# Altium integrated library Renesas Microprocessor SuperH.IntLib: 433 symbols (part 36 of 62)
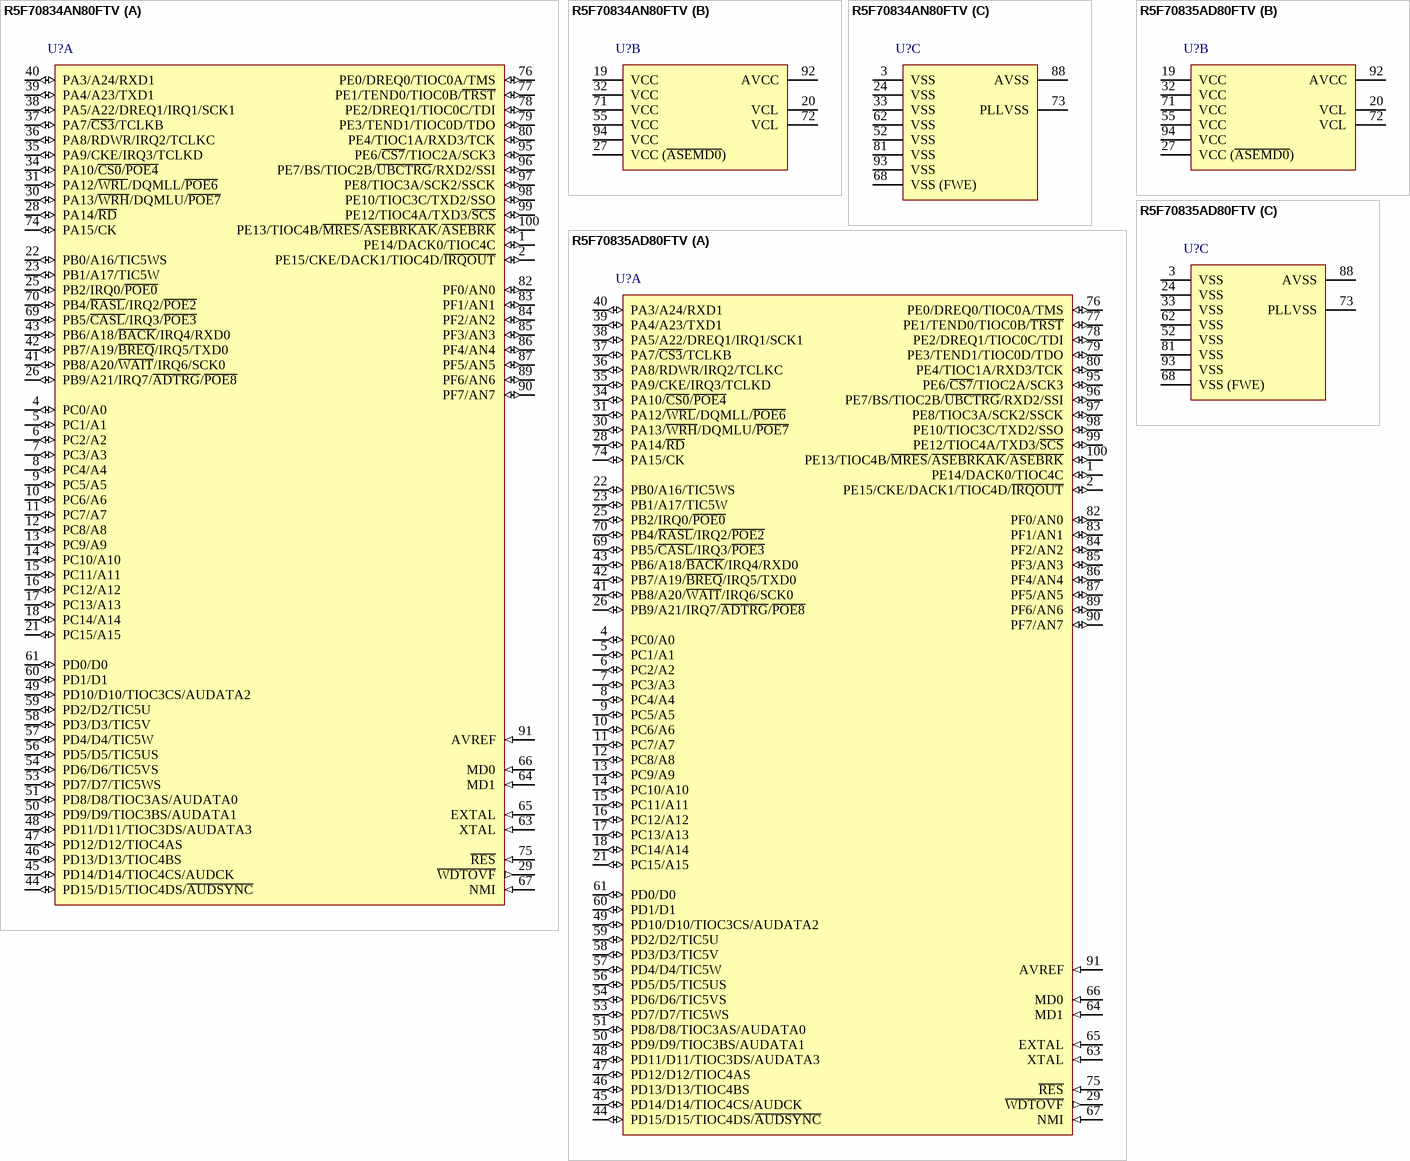
[diagram p403: symbols R5F70834AN80FTV to R5F70835AD80FTV]

## R5F70835AD80FTV
designator U?
32-Bit RISC Microcomputer, SH7080 Series, SH-2 core, 80MHz, 512K ROM, 32K RAM, PTQP0100KA-A (TFP-100BV) Package, -40 to 85°C; Published: 28-Aug-2009; LatestRevisionDate: 15-Feb-2010; LatestRevisionNote: Updated to datasheet revision 4.00 Dec-2009.; DatasheetVersion: Rev.4.00, Dec-2009; PackageVersion: Sep-2005; PackageReference: PTQP0100KA-A; Publisher: Altium Limited; PackageDescription: 100-Pin Plastic Thin Quad Flat Pack, 14 x 14 x 1.0 mm Body, 0.5 mm Pitch; Code_JEITA: P-TQFP100-14x14-0.50; ComponentLink1Description: Manufacturer Link; ComponentLink1URL: http://www.renesas.com/fmwk.jsp?cnt=sh7080_root.jsp&fp=/products/mpumcu/superh_family/sh7080_series/sh7080_group/; ComponentLink2Description: Datasheet; ComponentLink2URL: http://documentation.renesas.com/eng/products/mpumcu/rej09b0181_sh7080.pdf; ComponentLink3Description: Packaging Specification; ComponentLink3URL: http://sg.renesas.com/media/products/common_info/package/pdf/ic/code/ptqp0100ka_a.pdf
footprint PTQP0100KA-A_N (Thin QFP, 100-Leads, Body 14x14mm, Pitch 0.5mm, IPC Medium Density)
footprint PTQP0100KA-A_L (Thin QFP, 100-Leads, Body 14x14mm, Pitch 0.5mm, IPC High Density)
footprint PTQP0100KA-A_M (Thin QFP, 100-Leads, Body 14x14mm, Pitch 0.5mm, IPC Low Density)
part A pins: 1 PE14/DACK0/TIOC4C (io), 2 PE15/CKE/DACK1/TIOC4D/~{IRQOUT} (io), 4 PC0/A0 (io), 5 PC1/A1 (io), 6 PC2/A2 (io), 7 PC3/A3 (io), 8 PC4/A4 (io), 9 PC5/A5 (io), 10 PC6/A6 (io), 11 PC7/A7 (io), 12 PC8/A8 (io), 13 PC9/A9 (io), 14 PC10/A10 (io), 15 PC11/A11 (io), 16 PC12/A12 (io), 17 PC13/A13 (io), 18 PC14/A14 (io), 21 PC15/A15 (io), 22 PB0/A16/TIC5WS (io), 23 PB1/A17/TIC5W (io), 25 PB2/IRQ0/~{POE0} (io), 26 PB9/A21/IRQ7/~{ADTRG}/~{POE8} (io), 28 PA14/~{RD} (io), 29 ~{WDTOVF} (out), 30 PA13/~{WRH}/DQMLU/~{POE7} (io), 31 PA12/~{WRL}/DQMLL/~{POE6} (io), 34 PA10/~{CS0}/~{POE4} (io), 35 PA9/CKE/IRQ3/TCLKD (io), 36 PA8/RDWR/IRQ2/TCLKC (io), 37 PA7/~{CS3}/TCLKB (io), 38 PA5/A22/DREQ1/IRQ1/SCK1 (io), 39 PA4/A23/TXD1 (io), 40 PA3/A24/RXD1 (io), 41 PB8/A20/~{WAIT}/IRQ6/SCK0 (io), 42 PB7/A19/~{BREQ}/IRQ5/TXD0 (io), 43 PB6/A18/~{BACK}/IRQ4/RXD0 (io), 44 PD15/D15/TIOC4DS/~{AUDSYNC} (io), 45 PD14/D14/TIOC4CS/AUDCK (io), 46 PD13/D13/TIOC4BS (io), 47 PD12/D12/TIOC4AS (io), 48 PD11/D11/TIOC3DS/AUDATA3 (io), 49 PD10/D10/TIOC3CS/AUDATA2 (io), 50 PD9/D9/TIOC3BS/AUDATA1 (io), 51 PD8/D8/TIOC3AS/AUDATA0 (io), 53 PD7/D7/TIC5WS (io), 54 PD6/D6/TIC5VS (io), 56 PD5/D5/TIC5US (io), 57 PD4/D4/TIC5W (io), 58 PD3/D3/TIC5V (io), 59 PD2/D2/TIC5U (io), 60 PD1/D1 (io), 61 PD0/D0 (io), 63 XTAL (in), 64 MD1 (in), 65 EXTAL (in), 66 MD0 (in), 67 NMI (in), 69 PB5/~{CASL}/IRQ3/~{POE3} (io), 70 PB4/~{RASL}/IRQ2/~{POE2} (io), 74 PA15/CK (io), 75 ~{RES} (in), 76 PE0/DREQ0/TIOC0A/TMS (io), 77 PE1/TEND0/TIOC0B/~{TRST} (io), 78 PE2/DREQ1/TIOC0C/TDI (io), 79 PE3/TEND1/TIOC0D/TDO (io), 80 PE4/TIOC1A/RXD3/TCK (io), 82 PF0/AN0 (io), 83 PF1/AN1 (io), 84 PF2/AN2 (io), 85 PF3/AN3 (io), 86 PF4/AN4 (io), 87 PF5/AN5 (io), 89 PF6/AN6 (io), 90 PF7/AN7 (io), 91 AVREF (in), 95 PE6/~{CS7}/TIOC2A/SCK3 (io), 96 PE7/BS/TIOC2B/~{UBCTRG}/RXD2/SSI (io), 97 PE8/TIOC3A/SCK2/SSCK (io), 98 PE10/TIOC3C/TXD2/SSO (io), 99 PE12/TIOC4A/TXD3/~{SCS} (io), 100 PE13/TIOC4B/~{MRES}/~{ASEBRKAK}/~{ASEBRK} (io)
part B pins: 19 VCC (power), 20 VCL (power), 27 VCC (~{ASEMD0}) (power), 32 VCC (power), 55 VCC (power), 71 VCC (power), 72 VCL (power), 92 AVCC (power), 94 VCC (power)
part C pins: 3 VSS (power), 24 VSS (power), 33 VSS (power), 52 VSS (power), 62 VSS (power), 68 VSS (FWE) (power), 73 PLLVSS (power), 81 VSS (power), 88 AVSS (power), 93 VSS (power)

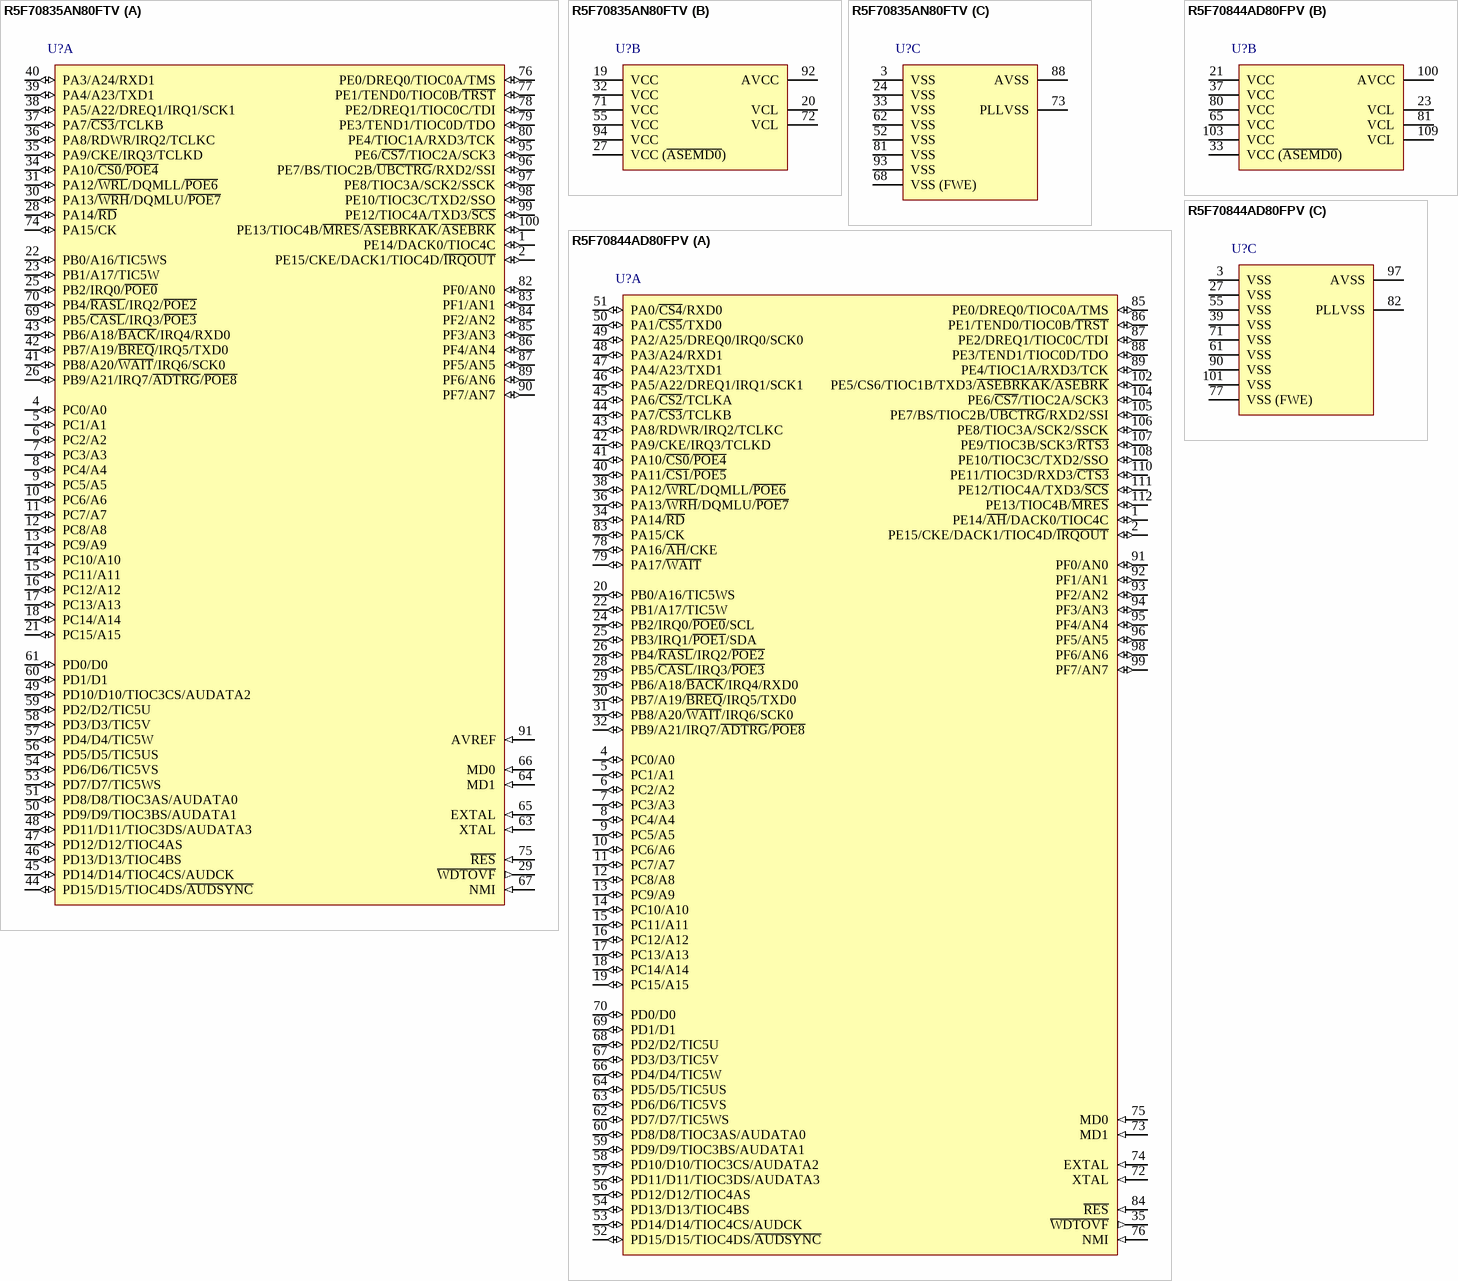
[diagram p131: symbols R5F70835AN80FTV to R5F70844AD80FPV]

## R5F70835AN80FTV
designator U?
32-Bit RISC Microcomputer, SH7080 Series, SH-2 core, 80MHz, 512K ROM, 32K RAM, PTQP0100KA-A (TFP-100BV) Package, -20 to 85°C; Published: 28-Aug-2009; LatestRevisionDate: 15-Feb-2010; LatestRevisionNote: Updated to datasheet revision 4.00 Dec-2009.; DatasheetVersion: Rev.4.00, Dec-2009; PackageVersion: Sep-2005; PackageReference: PTQP0100KA-A; Publisher: Altium Limited; PackageDescription: 100-Pin Plastic Thin Quad Flat Pack, 14 x 14 x 1.0 mm Body, 0.5 mm Pitch; Code_JEITA: P-TQFP100-14x14-0.50; ComponentLink1Description: Manufacturer Link; ComponentLink1URL: http://www.renesas.com/fmwk.jsp?cnt=sh7080_root.jsp&fp=/products/mpumcu/superh_family/sh7080_series/sh7080_group/; ComponentLink2Description: Datasheet; ComponentLink2URL: http://documentation.renesas.com/eng/products/mpumcu/rej09b0181_sh7080.pdf; ComponentLink3Description: Packaging Specification; ComponentLink3URL: http://sg.renesas.com/media/products/common_info/package/pdf/ic/code/ptqp0100ka_a.pdf
footprint PTQP0100KA-A_N (Thin QFP, 100-Leads, Body 14x14mm, Pitch 0.5mm, IPC Medium Density)
footprint PTQP0100KA-A_L (Thin QFP, 100-Leads, Body 14x14mm, Pitch 0.5mm, IPC High Density)
footprint PTQP0100KA-A_M (Thin QFP, 100-Leads, Body 14x14mm, Pitch 0.5mm, IPC Low Density)
part A pins: 1 PE14/DACK0/TIOC4C (io), 2 PE15/CKE/DACK1/TIOC4D/~{IRQOUT} (io), 4 PC0/A0 (io), 5 PC1/A1 (io), 6 PC2/A2 (io), 7 PC3/A3 (io), 8 PC4/A4 (io), 9 PC5/A5 (io), 10 PC6/A6 (io), 11 PC7/A7 (io), 12 PC8/A8 (io), 13 PC9/A9 (io), 14 PC10/A10 (io), 15 PC11/A11 (io), 16 PC12/A12 (io), 17 PC13/A13 (io), 18 PC14/A14 (io), 21 PC15/A15 (io), 22 PB0/A16/TIC5WS (io), 23 PB1/A17/TIC5W (io), 25 PB2/IRQ0/~{POE0} (io), 26 PB9/A21/IRQ7/~{ADTRG}/~{POE8} (io), 28 PA14/~{RD} (io), 29 ~{WDTOVF} (out), 30 PA13/~{WRH}/DQMLU/~{POE7} (io), 31 PA12/~{WRL}/DQMLL/~{POE6} (io), 34 PA10/~{CS0}/~{POE4} (io), 35 PA9/CKE/IRQ3/TCLKD (io), 36 PA8/RDWR/IRQ2/TCLKC (io), 37 PA7/~{CS3}/TCLKB (io), 38 PA5/A22/DREQ1/IRQ1/SCK1 (io), 39 PA4/A23/TXD1 (io), 40 PA3/A24/RXD1 (io), 41 PB8/A20/~{WAIT}/IRQ6/SCK0 (io), 42 PB7/A19/~{BREQ}/IRQ5/TXD0 (io), 43 PB6/A18/~{BACK}/IRQ4/RXD0 (io), 44 PD15/D15/TIOC4DS/~{AUDSYNC} (io), 45 PD14/D14/TIOC4CS/AUDCK (io), 46 PD13/D13/TIOC4BS (io), 47 PD12/D12/TIOC4AS (io), 48 PD11/D11/TIOC3DS/AUDATA3 (io), 49 PD10/D10/TIOC3CS/AUDATA2 (io), 50 PD9/D9/TIOC3BS/AUDATA1 (io), 51 PD8/D8/TIOC3AS/AUDATA0 (io), 53 PD7/D7/TIC5WS (io), 54 PD6/D6/TIC5VS (io), 56 PD5/D5/TIC5US (io), 57 PD4/D4/TIC5W (io), 58 PD3/D3/TIC5V (io), 59 PD2/D2/TIC5U (io), 60 PD1/D1 (io), 61 PD0/D0 (io), 63 XTAL (in), 64 MD1 (in), 65 EXTAL (in), 66 MD0 (in), 67 NMI (in), 69 PB5/~{CASL}/IRQ3/~{POE3} (io), 70 PB4/~{RASL}/IRQ2/~{POE2} (io), 74 PA15/CK (io), 75 ~{RES} (in), 76 PE0/DREQ0/TIOC0A/TMS (io), 77 PE1/TEND0/TIOC0B/~{TRST} (io), 78 PE2/DREQ1/TIOC0C/TDI (io), 79 PE3/TEND1/TIOC0D/TDO (io), 80 PE4/TIOC1A/RXD3/TCK (io), 82 PF0/AN0 (io), 83 PF1/AN1 (io), 84 PF2/AN2 (io), 85 PF3/AN3 (io), 86 PF4/AN4 (io), 87 PF5/AN5 (io), 89 PF6/AN6 (io), 90 PF7/AN7 (io), 91 AVREF (in), 95 PE6/~{CS7}/TIOC2A/SCK3 (io), 96 PE7/BS/TIOC2B/~{UBCTRG}/RXD2/SSI (io), 97 PE8/TIOC3A/SCK2/SSCK (io), 98 PE10/TIOC3C/TXD2/SSO (io), 99 PE12/TIOC4A/TXD3/~{SCS} (io), 100 PE13/TIOC4B/~{MRES}/~{ASEBRKAK}/~{ASEBRK} (io)
part B pins: 19 VCC (power), 20 VCL (power), 27 VCC (~{ASEMD0}) (power), 32 VCC (power), 55 VCC (power), 71 VCC (power), 72 VCL (power), 92 AVCC (power), 94 VCC (power)
part C pins: 3 VSS (power), 24 VSS (power), 33 VSS (power), 52 VSS (power), 62 VSS (power), 68 VSS (FWE) (power), 73 PLLVSS (power), 81 VSS (power), 88 AVSS (power), 93 VSS (power)

## R5F70844AD80FPV
designator U?
32-Bit RISC Microcomputer, SH7080 Series, SH-2 core, 80MHz, 256K ROM, 16K RAM, PLQP0112JA-A (FP-112EV) Package, -40 to 85°C; Published: 28-Aug-2009; LatestRevisionDate: 15-Feb-2010; LatestRevisionNote: Updated to datasheet revision 4.00 Dec-2009.; DatasheetVersion: Rev.4.00, Dec-2009; PackageVersion: Sep-2005; PackageReference: PLQP0112JA-A; Publisher: Altium Limited; PackageDescription: 112-Pin Plastic Low Profile QFP, 20 x 20 x 1.4 mm Body, 0.65 mm Pitch; Code_JEITA: P-LQFP112-20x20-0.65; ComponentLink1Description: Manufacturer Link; ComponentLink1URL: http://www.renesas.com/fmwk.jsp?cnt=sh7080_root.jsp&fp=/products/mpumcu/superh_family/sh7080_series/sh7080_group/; ComponentLink2Description: Datasheet; ComponentLink2URL: http://documentation.renesas.com/eng/products/mpumcu/rej09b0181_sh7080.pdf; ComponentLink3Description: Packaging Specification; ComponentLink3URL: http://sg.renesas.com/media/products/common_info/package/pdf/ic/code/plqp0112ja_a.pdf
footprint PLQP0112JA-A_N (QFP, 112-Leads, Body 20x20mm, Pitch 0.65mm, IPC Medium Density)
footprint PLQP0112JA-A_L (QFP, 112-Leads, Body 20x20mm, Pitch 0.65mm, IPC High Density)
footprint PLQP0112JA-A_M (QFP, 112-Leads, Body 20x20mm, Pitch 0.65mm, IPC Low Density)
part A pins: 1 PE14/~{AH}/DACK0/TIOC4C (io), 2 PE15/CKE/DACK1/TIOC4D/~{IRQOUT} (io), 4 PC0/A0 (io), 5 PC1/A1 (io), 6 PC2/A2 (io), 7 PC3/A3 (io), 8 PC4/A4 (io), 9 PC5/A5 (io), 10 PC6/A6 (io), 11 PC7/A7 (io), 12 PC8/A8 (io), 13 PC9/A9 (io), 14 PC10/A10 (io), 15 PC11/A11 (io), 16 PC12/A12 (io), 17 PC13/A13 (io), 18 PC14/A14 (io), 19 PC15/A15 (io), 20 PB0/A16/TIC5WS (io), 22 PB1/A17/TIC5W (io), 24 PB2/IRQ0/~{POE0}/SCL (io), 25 PB3/IRQ1/~{POE1}/SDA (io), 26 PB4/~{RASL}/IRQ2/~{POE2} (io), 28 PB5/~{CASL}/IRQ3/~{POE3} (io), 29 PB6/A18/~{BACK}/IRQ4/RXD0 (io), 30 PB7/A19/~{BREQ}/IRQ5/TXD0 (io), 31 PB8/A20/~{WAIT}/IRQ6/SCK0 (io), 32 PB9/A21/IRQ7/~{ADTRG}/~{POE8} (io), 34 PA14/~{RD} (io), 35 ~{WDTOVF} (out), 36 PA13/~{WRH}/DQMLU/~{POE7} (io), 38 PA12/~{WRL}/DQMLL/~{POE6} (io), 40 PA11/~{CS1}/~{POE5} (io), 41 PA10/~{CS0}/~{POE4} (io), 42 PA9/CKE/IRQ3/TCLKD (io), 43 PA8/RDWR/IRQ2/TCLKC (io), 44 PA7/~{CS3}/TCLKB (io), 45 PA6/~{CS2}/TCLKA (io), 46 PA5/A22/DREQ1/IRQ1/SCK1 (io), 47 PA4/A23/TXD1 (io), 48 PA3/A24/RXD1 (io), 49 PA2/A25/DREQ0/IRQ0/SCK0 (io), 50 PA1/~{CS5}/TXD0 (io), 51 PA0/~{CS4}/RXD0 (io), 52 PD15/D15/TIOC4DS/~{AUDSYNC} (io), 53 PD14/D14/TIOC4CS/AUDCK (io), 54 PD13/D13/TIOC4BS (io), 56 PD12/D12/TIOC4AS (io), 57 PD11/D11/TIOC3DS/AUDATA3 (io), 58 PD10/D10/TIOC3CS/AUDATA2 (io), 59 PD9/D9/TIOC3BS/AUDATA1 (io), 60 PD8/D8/TIOC3AS/AUDATA0 (io), 62 PD7/D7/TIC5WS (io), 63 PD6/D6/TIC5VS (io), 64 PD5/D5/TIC5US (io), 66 PD4/D4/TIC5W (io), 67 PD3/D3/TIC5V (io), 68 PD2/D2/TIC5U (io), 69 PD1/D1 (io), 70 PD0/D0 (io), 72 XTAL (in), 73 MD1 (in), 74 EXTAL (in), 75 MD0 (in), 76 NMI (in), 78 PA16/~{AH}/CKE (io), 79 PA17/~{WAIT} (io), 83 PA15/CK (io), 84 ~{RES} (in), 85 PE0/DREQ0/TIOC0A/TMS (io), 86 PE1/TEND0/TIOC0B/~{TRST} (io), 87 PE2/DREQ1/TIOC0C/TDI (io), 88 PE3/TEND1/TIOC0D/TDO (io), 89 PE4/TIOC1A/RXD3/TCK (io), 91 PF0/AN0 (io), 92 PF1/AN1 (io), 93 PF2/AN2 (io), 94 PF3/AN3 (io), 95 PF4/AN4 (io), 96 PF5/AN5 (io), 98 PF6/AN6 (io), 99 PF7/AN7 (io), 102 PE5/CS6/TIOC1B/TXD3/~{ASEBRKAK}/~{ASEBRK} (io), 104 PE6/~{CS7}/TIOC2A/SCK3 (io), 105 PE7/BS/TIOC2B/~{UBCTRG}/RXD2/SSI (io), 106 PE8/TIOC3A/SCK2/SSCK (io), 107 PE9/TIOC3B/SCK3/~{RTS3} (io), 108 PE10/TIOC3C/TXD2/SSO (io), 110 PE11/TIOC3D/RXD3/~{CTS3} (io), 111 PE12/TIOC4A/TXD3/~{SCS} (io), 112 PE13/TIOC4B/~{MRES} (io)
part B pins: 21 VCC (power), 23 VCL (power), 33 VCC (~{ASEMD0}) (power), 37 VCC (power), 65 VCC (power), 80 VCC (power), 81 VCL (power), 100 AVCC (power), 103 VCC (power), 109 VCL (power)
part C pins: 3 VSS (power), 27 VSS (power), 39 VSS (power), 55 VSS (power), 61 VSS (power), 71 VSS (power), 77 VSS (FWE) (power), 82 PLLVSS (power), 90 VSS (power), 97 AVSS (power), 101 VSS (power)

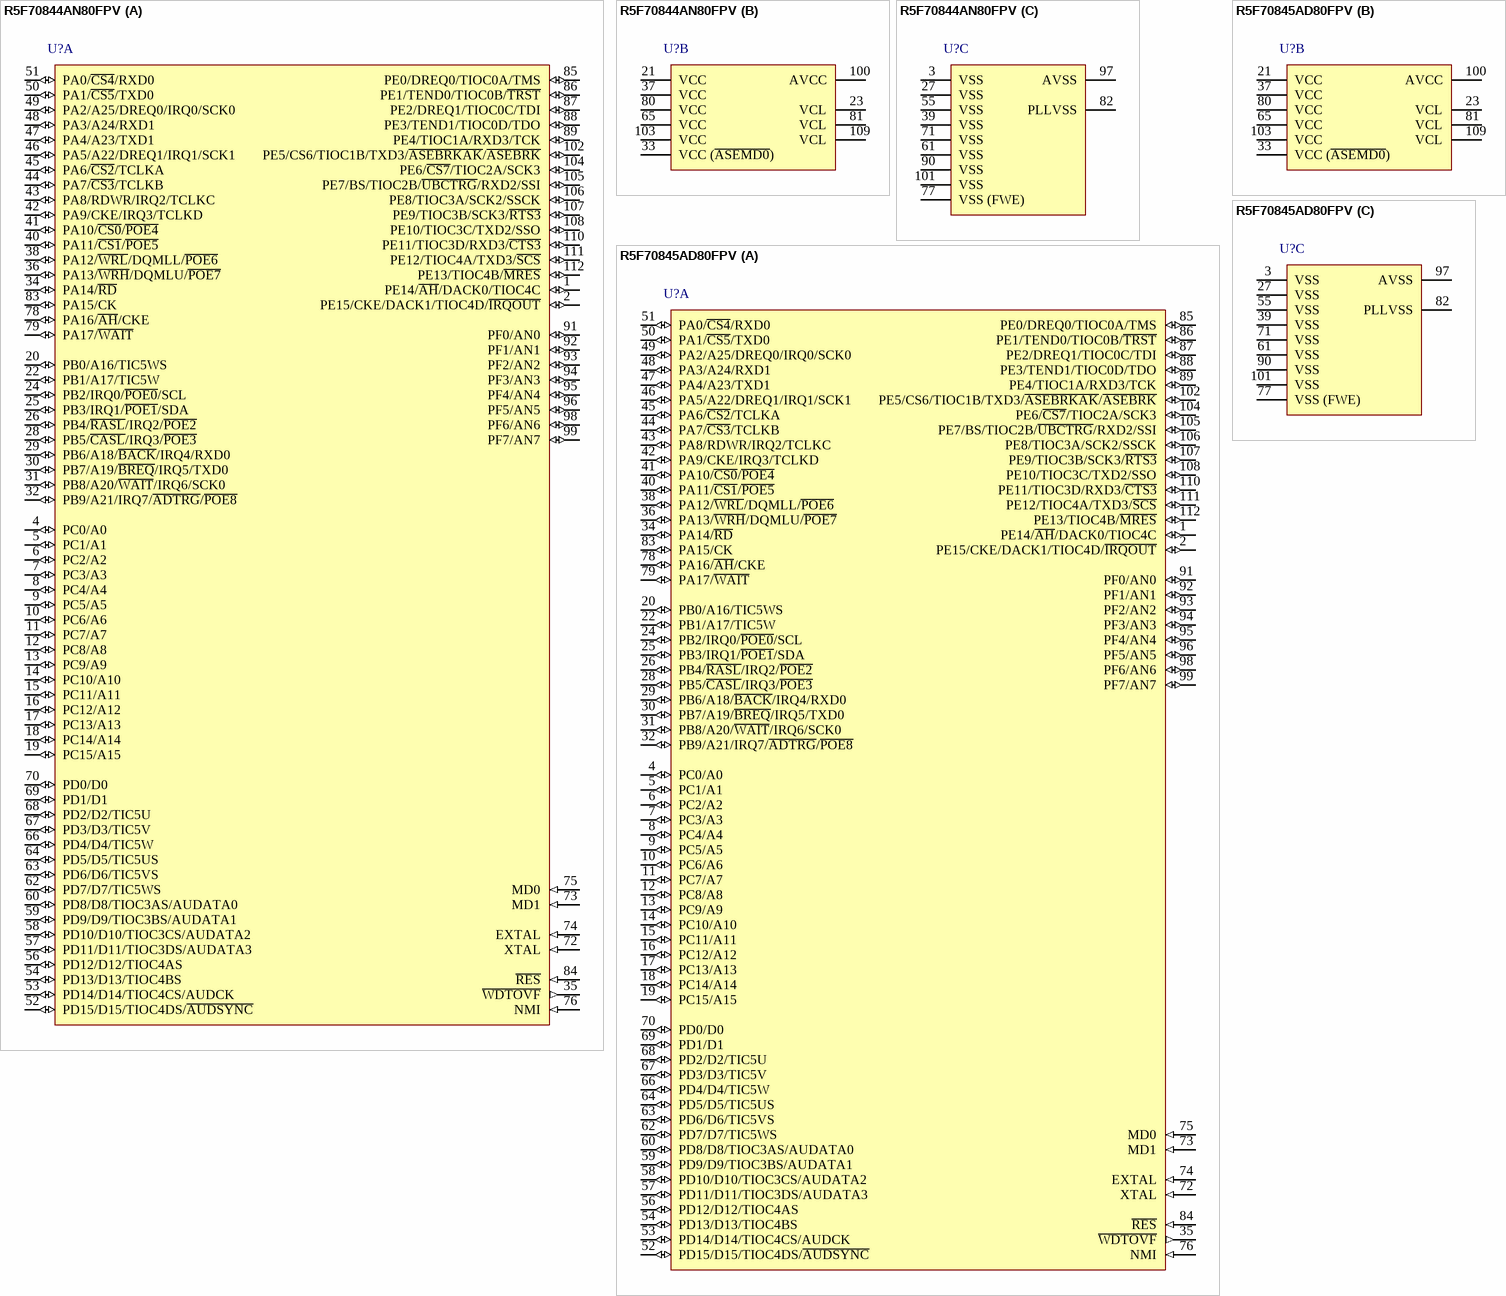
[diagram p132: symbols R5F70844AN80FPV to R5F70845AD80FPV]